# Altium integrated library JTP1138A6EM.IntLib: 1 symbol
Pins are listed as number, name and electrical type; pins without a type are passive.

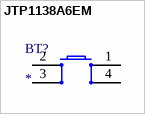
[diagram p0: symbol JTP1138A6EM]

## JTP1138A6EM
designator BT?
Datasheet: http://www.switchkorea.com/board/product_view.php?seq=55&cate=TACT
footprint JTP1138A6EM
pins: 1, 2, 3, 4